# EAGLE library part PIC16(L)F1454 (library leds)
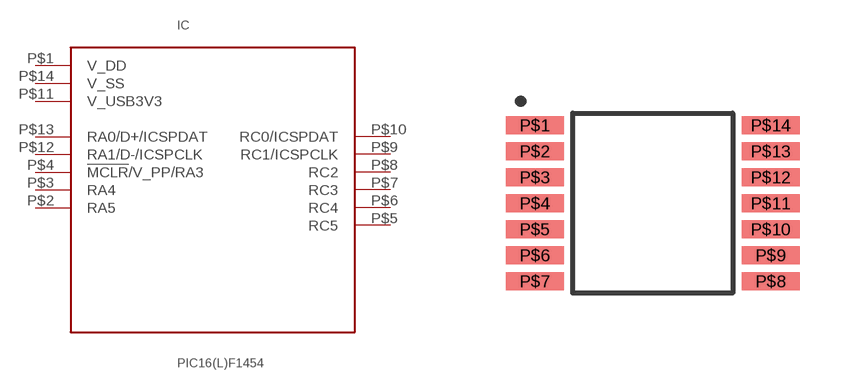
[diagram p1: symbol with the pads of TSSOP-14; footprint TSSOP-14]

Designator prefix IC

## PIC16(L)F1454-TSSOP-14  [TSSOP-14]
P$1  V_DD  pwr
P$2  RA5
P$3  RA4
P$4  !MCLR!/V_PP/RA3
P$5  RC5
P$6  RC4
P$7  RC3
P$8  RC2
P$9  RC1/ICSPCLK
P$10  RC0/ICSPDAT
P$11  V_USB3V3  pwr
P$12  RA1/D-/ICSPCLK
P$13  RA0/D+/ICSPDAT
P$14  V_SS  pwr

## Footprint TSSOP-14 (pad centres in mm)
smd 1.45 x 0.45: P$1 -2.95,1.95; P$2 -2.95,1.3; P$3 -2.95,0.65; P$4 -2.95,0; P$5 -2.95,-0.65; P$6 -2.95,-1.3; P$7 -2.95,-1.95; P$8 2.95,-1.95; P$9 2.95,-1.3; P$10 2.95,-0.65; P$11 2.95,0; P$12 2.95,0.65; P$13 2.95,1.3; P$14 2.95,1.95